# EAGLE library part PIC12F508 (library Microchip)
8-Bit Flash Microcontrollers
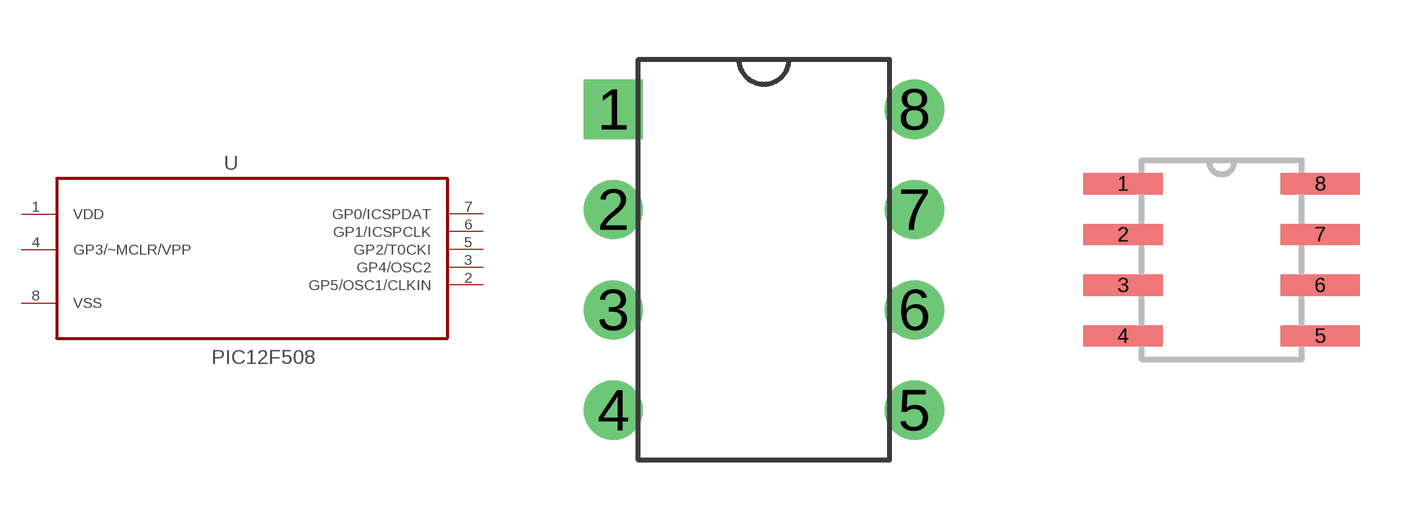
[diagram p2: symbol with the pads of DIP254P762X432-8; footprints DIP254P762X432-8, SOIC127P600X175-8N]

Designator prefix -

## PIC12F508PDIP  [DIP254P762X432-8]
1  VDD  pwr
2  GP5/OSC1/CLKIN
3  GP4/OSC2
4  GP3/~MCLR/VPP  in
5  GP2/T0CKI
6  GP1/ICSPCLK
7  GP0/ICSPDAT
8  VSS  pas

## PIC12F508SOIC  [SOIC127P600X175-8N]
Pads as for DIP254P762X432-8

## Footprint DIP254P762X432-8 (pad centres in mm)
drill 0.991 square: 1 -7.62,7.62
drill 0.991: 2 -7.62,5.08; 3 -7.62,2.54; 4 -7.62,0; 5 0,0; 6 0,2.54; 7 0,5.08; 8 0,7.62

## Footprint SOIC127P600X175-8N (pad centres in mm)
smd 1.981 x 0.533: 1 -2.464,1.905; 2 -2.464,0.635; 3 -2.464,-0.635; 4 -2.464,-1.905; 5 2.464,-1.905; 6 2.464,-0.635; 7 2.464,0.635; 8 2.464,1.905